# EAGLE library part SA612* (library 0-svo)
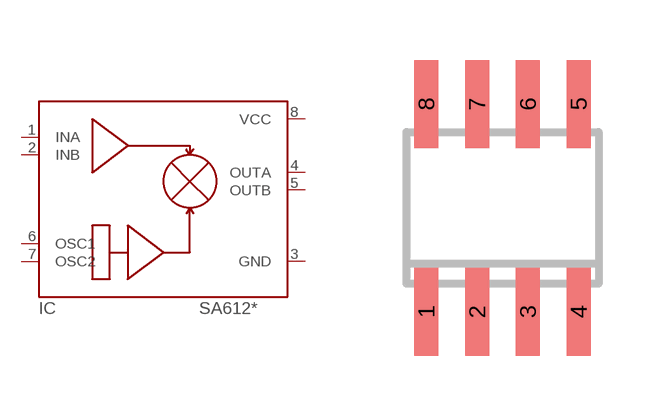
[diagram p4: symbol with the pads of SO08; footprint SO08]

Designator prefix IC

## SA612D  [SO08]
1  INA
2  INB
3  GND
4  OUTA
5  OUTB
6  OSC1
7  OSC2
8  VCC

## Footprint SO08 (pad centres in mm)
SMALL OUTLINE INTEGRATED CIRCUIT body 3.9 mm/JEDEC MS-012AA
smd 0.6 x 2.2: 1 -1.905,-2.6; 2 -0.635,-2.6; 3 0.635,-2.6; 4 1.905,-2.6; 5 1.905,2.6; 6 0.635,2.6; 7 -0.635,2.6; 8 -1.905,2.6